# Altium integrated library Zoul_RevA.IntLib: 1 symbol
Pins are listed as number, name and electrical type; pins without a type are passive.

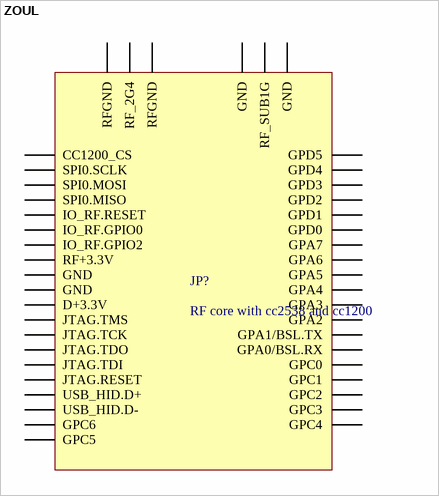
[diagram p0: symbol ZOUL]

## ZOUL
designator JP?, comment RF core with cc2538 and cc1200
Supplied By: Zolertia
footprint ZOUL
footprint ZOUL MOUSE BITES
footprint ZOUL_SPRING_PROBES (Footprint to use for pogo pin mounting)
footprint ZOUL_SPRING_SPRING_HOLES (Footprint to use for allow to pass pogo pin though holes)
footprint ZOUL_SPRING_SPRING_HOLES_2 (Footprint to use for allow to pass pogo pin though holes)
pins: 1 CC1200_CS, 2 SPI0.SCLK, 3 SPI0.MOSI, 4 SPI0.MISO, 5 IO_RF.RESET, 6 IO_RF.GPIO0, 7 IO_RF.GPIO2, 8 RF+3.3V, 9 GND, 10 GND, 11 D+3.3V, 12 JTAG.TMS, 13 JTAG.TCK, 14 JTAG.TDO, 15 JTAG.TDI, 16 JTAG.RESET, 17 USB_HID.D+, 18 USB_HID.D-, 19 GPC6, 20 GPC5, 21 GPC4, 22 GPC3, 23 GPC2, 24 GPC1, 25 GPC0, 26 GPA0/BSL.RX, 27 GPA1/BSL.TX, 28 GPA2, 29 GPA3, 30 GPA4, 31 GPA5, 32 GPA6, 33 GPA7, 34 GPD0, 35 GPD1, 36 GPD2, 37 GPD3, 38 GPD4, 39 GPD5, 40 GND, 41 RF_SUB1G, 42 GND, 43 RFGND, 44 RF_2G4, 45 RFGND